# EAGLE library part LMX2572_QFN (library QFN50P600X600X100-41N)
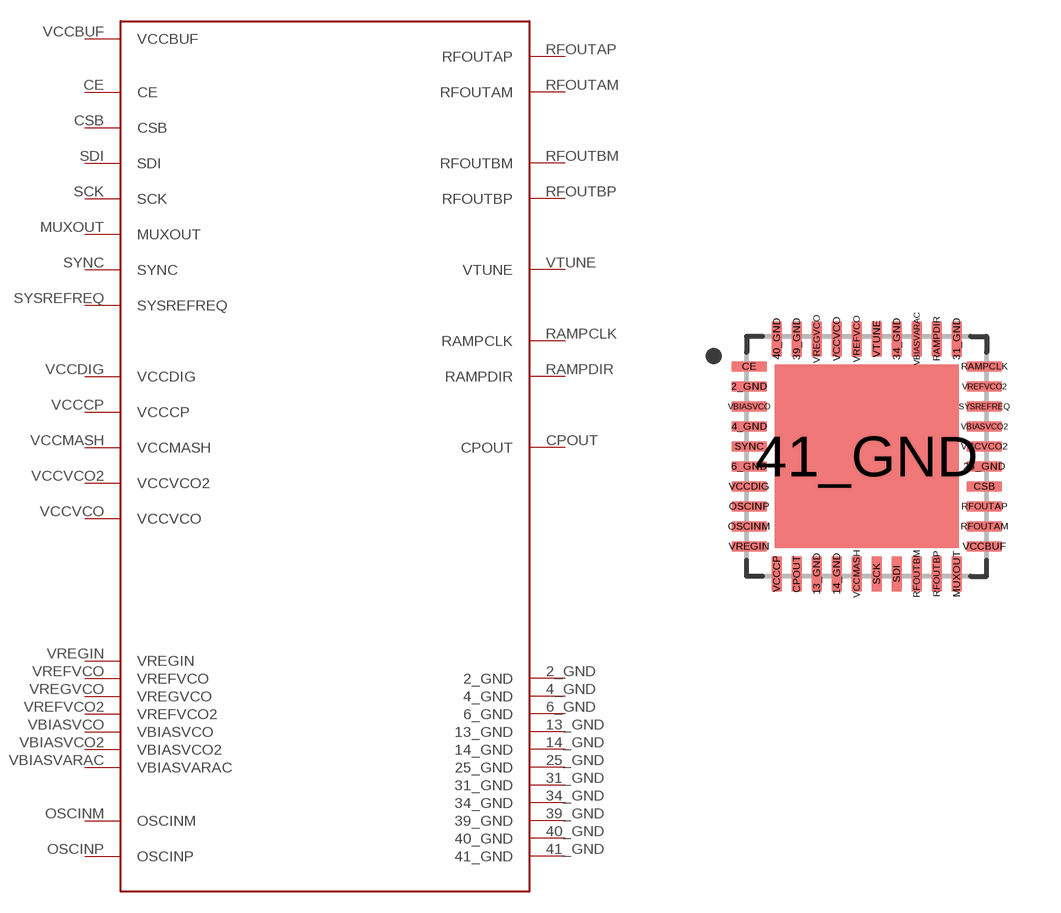
[diagram p0: symbol with the pads of LMX2572_QFN; footprint LMX2572_QFN]

Designator prefix -

## LMX2572_QFN  [LMX2572_QFN]
2_GND  2_GND
4_GND  4_GND
6_GND  6_GND
13_GND  13_GND
14_GND  14_GND
25_GND  25_GND
31_GND  31_GND
34_GND  34_GND
39_GND  39_GND
40_GND  40_GND
41_GND  41_GND
CE  CE
CPOUT  CPOUT
CSB  CSB
MUXOUT  MUXOUT
OSCINM  OSCINM
OSCINP  OSCINP
RAMPCLK  RAMPCLK
RAMPDIR  RAMPDIR
RFOUTAM  RFOUTAM
RFOUTAP  RFOUTAP
RFOUTBM  RFOUTBM
RFOUTBP  RFOUTBP
SCK  SCK
SDI  SDI
SYNC  SYNC
SYSREFREQ  SYSREFREQ
VBIASVARAC  VBIASVARAC
VBIASVCO  VBIASVCO
VBIASVCO2  VBIASVCO2
VCCBUF  VCCBUF
VCCCP  VCCCP
VCCDIG  VCCDIG
VCCMASH  VCCMASH
VCCVCO  VCCVCO
VCCVCO2  VCCVCO2
VREFVCO  VREFVCO
VREFVCO2  VREFVCO2
VREGIN  VREGIN
VREGVCO  VREGVCO
VTUNE  VTUNE

## Footprint LMX2572_QFN (pad centres in mm)
smd 0.89 x 0.26: 2_GND -2.94,1.75; 4_GND -2.94,0.75; 6_GND -2.94,-0.25; 25_GND 2.94,-0.25; CE -2.94,2.25; CSB 2.94,-0.75; OSCINM -2.94,-1.75; OSCINP -2.94,-1.25; RAMPCLK 2.94,2.25; RFOUTAM 2.94,-1.75; RFOUTAP 2.94,-1.25; SYNC -2.94,0.25; SYSREFREQ 2.94,1.25; VBIASVCO -2.94,1.25; VBIASVCO2 2.94,0.75; VCCBUF 2.94,-2.25; VCCDIG -2.94,-0.75; VCCVCO2 2.94,0.25; VREFVCO2 2.94,1.75; VREGIN -2.94,-2.25
smd 0.26 x 0.89: 13_GND -1.25,-2.94; 14_GND -0.75,-2.94; 31_GND 2.25,2.94; 34_GND 0.75,2.94; 39_GND -1.75,2.94; 40_GND -2.25,2.94; CPOUT -1.75,-2.94; MUXOUT 2.25,-2.94; RAMPDIR 1.75,2.94; RFOUTBM 1.25,-2.94; RFOUTBP 1.75,-2.94; SCK 0.25,-2.94; SDI 0.75,-2.94; VBIASVARAC 1.25,2.94; VCCCP -2.25,-2.94; VCCMASH -0.25,-2.94; VCCVCO -0.75,2.94; VREFVCO -0.25,2.94; VREGVCO -1.25,2.94; VTUNE 0.25,2.94
smd 4.59 x 4.59: 41_GND 0,0